# EAGLE library part DLATCH (library ngspice)
The digital d-type latch is a one-bit, level-sensitive storage element which will output the value on the data line whenever the enable input line is high (ONE). The value on the data line is stored (i.e., held on the out line) whenever the enable line is low (ZERO). In addition, asynchronous set and reset signals exist, and each of the four methods of changing the stored output of the d_dlatch (i.e., data changing with enable=ONE, enable changing to ONE from ZERO with a new value on data, raising set and raising reset) have separate delays associated with them. You may also specify separate rise and fall delay values that are added to those specified for the input lines; these allow for more faithful reproduction of the output characteristics of different IC fabrication technologies. Note that any UNKNOWN inputs other than on the data line when enable=ZERO immediately cause the output to go UNKNOWN.
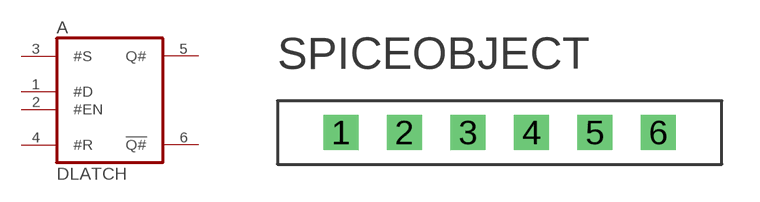
[diagram p3: symbol with the pads of SPICE6; footprint SPICE6]

Designator prefix A

## DLATCH (SPICE_MODEL: .model >VALUE d_dlatch (data_delay enable_delay set_delay reset_delay ic data_load enable_load set_load reset_load rise_delay fall_delay); SP_DATA_DELAY: 1ns; SP_DATA_LOAD: 1pF; SP_ENABLE_DELAY: 1ns; SP_ENABLE_LOAD: 1pF; SP_FALL_DELAY: 1ns; SP_IC: 0; SP_RESET_DELAY: 1ns; SP_RESET_LOAD: 1pF; SP_RISE_DELAY: 1ns; SP_SET_DELAY: 1ns; SP_SET_LOAD: 1pF)  [SPICE6]
1  #D  in
2  #EN  in
3  #S  in
4  #R  in
5  Q#  out
6  !Q#  out

## Footprint SPICE6 (pad centres in mm)
drill 0.813 pad 1.397 square: 1 -6.35,0; 2 -3.81,0; 3 -1.27,0; 4 1.27,0; 5 3.81,0; 6 6.35,0